# Altium footprint library 228CM.PcbLib: 1 footprints
Each footprint in its own frame and in the unit in brackets; x right, y up, seen from the top. Pads: shape width x height; smd on the part's side, far side on the other; paste and mask are expansions set on the pad; w line width, h text height; cw(c..) or ccw(c..) is an arc to the next point about the centre after c.
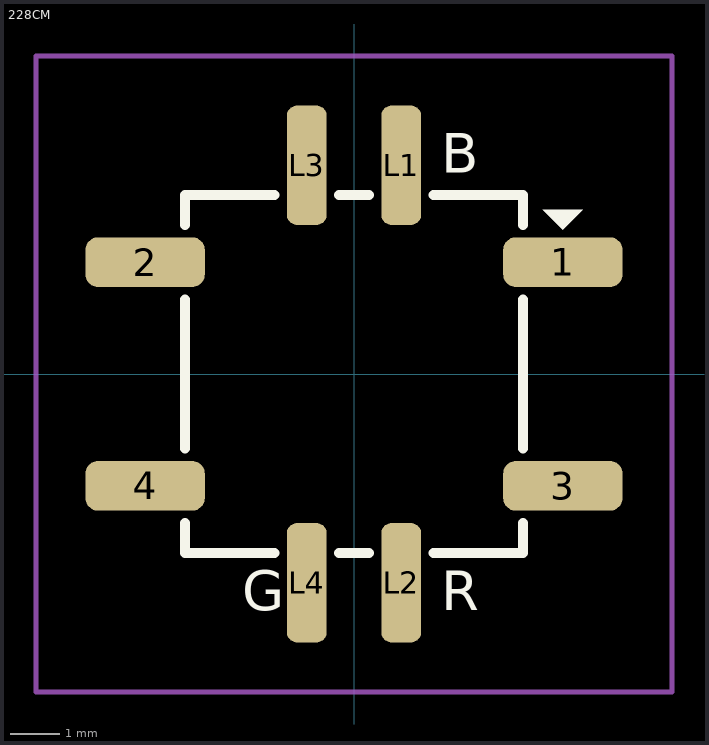
[diagram p0: the footprint, top view; thin cyan lines are the x and y axes]

## 228CM [mm]
pads (8):
  rrect50% 2.4x1 smd: 1(4.2,2.25) 2(-4.2,2.25) 3(4.2,-2.25) 4(-4.2,-2.25)
  rrect50% 0.8x2.4 smd: L1(0.95,4.2) L2(0.95,-4.2) L3(-0.95,4.2) L4(-0.95,-4.2)
Top Overlay:
  region: 3.8,3.3 4.6,3.3 4.2,2.9
  lines w0.2: -3.4,-3 -3.4,-3.6 -1.6,-3.6 ; -3.4,-1.5 -3.4,1.5 ; -3.4,3 -3.4,3.6 -1.6,3.6 ; -0.3,-3.6 0.3,-3.6 ; -0.3,3.6 0.3,3.6 ; 1.6,-3.6 3.4,-3.6 3.4,-3 ; 1.6,3.6 3.4,3.6 3.4,3 ; 3.4,-1.5 3.4,1.5
  text "G" at -2.25,-4.75 h0.8
  text "R" at 1.75,-4.75 h0.8
  text "B" at 1.75,4.05 h0.8
Top Courtyard:
  lines w0.1: -6.4,-6.4 -0.975,-6.4 6.4,-6.4 6.4,6.4 -6.4,6.4 -6.4,-6.4
3D body "228CMVARGBFR.stp": height 7.4, standoff 0.05, extent -5,-5 5,5